# Altium schematic symbol library NX3225GD-8MHZ.SchLib: 1 symbol
Pins are listed as number, name and electrical type; pins without a type are passive.

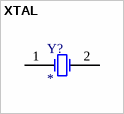
[diagram p0: symbol XTAL]

## XTAL
designator Y?
8Mhz; ComponentLink1Description: link; ComponentLink1URL: https://www.mouser.es/ProductDetail/NDK/NX3225GD-8MHZ-STD-CRA-3?qs=55YtniHzbhDA0fw3anYH2g%3D%3D; ComponentLink2Description: datasheet; ComponentLink2URL: https://www.mouser.es/datasheet/2/905/c_NX3225GD_STD_CRA_3_e-1317534.pdf
footprint 3.2x2.5mm
pins: 1 OSC1, 2 OSC2